# EAGLE library part AVR_SPI_PRG_6 (library quadparts_prebuilt_2022)
AVR ISP 6 Pin This is the in-system programming (ISP) connector for Atmel Microcontrollers programming.
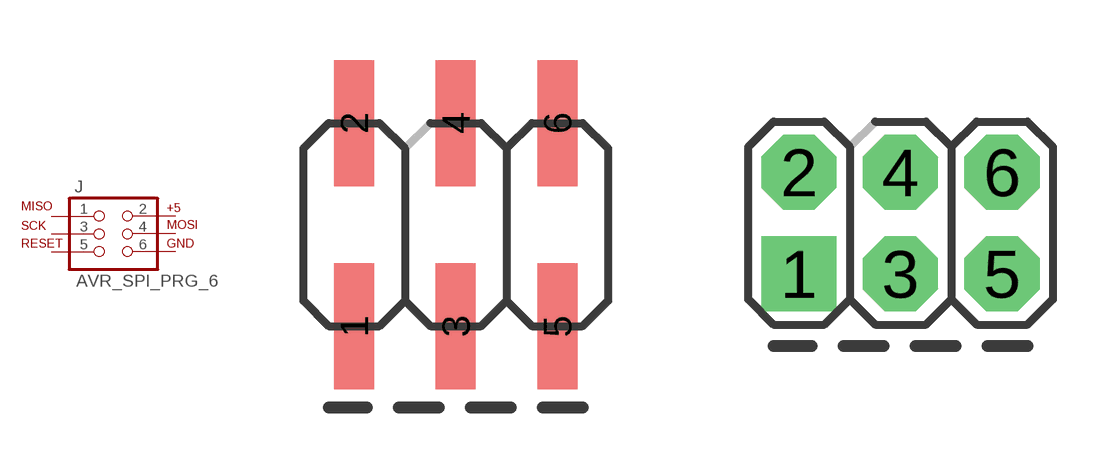
[diagram p1: symbol with the pads of 2X3-SMD; footprints 2X3-SMD, 2X3-NS]

Designator prefix J

## AVR_SPI_PRG_6-SMD (CREATOR: Swanson; DESC: CONN HEADER SMD 6POS 2.54MM; DIST: Digikey; DISTPN: 609-3487-2-ND; MFR: Amphenol ICC (FCI); MOUNTING: SMD; MPN: 95278-101A06LF)  [2X3-SMD]
1  1  pas
2  2  pas
3  3  pas
4  4  pas
5  5  pas
6  6  pas

## AVR_SPI_PRG_6NS (CREATOR: Swanson; DATASHEET: http://portal.fciconnect.com/Comergent//fci/drawing/67996.pdf; DIST: Digikey; DISTPN: 609-3234-ND; MFR: Amphenol FCI; MOUNTING: TH; MPN: 67997-206HLF; PRICE: 0.31; REVIEWER: Swanson)  [2X3-NS]
Pads as for 2X3-SMD

## Footprint 2X3-SMD (pad centres in mm)
smd 1 x 3.15: 1 -2.54,-2.54; 2 -2.54,2.54; 3 0,-2.54; 4 0,2.54; 5 2.54,-2.54; 6 2.54,2.54

## Footprint 2X3-NS (pad centres in mm)
drill 1.016 pad 1.88 square: 1 -2.54,-1.27
drill 1.016 pad 1.88 octagon: 2 -2.54,1.27; 3 0,-1.27; 4 0,1.27; 5 2.54,-1.27; 6 2.54,1.27